# EAGLE library part PDI (library ds_ic_peripherals)
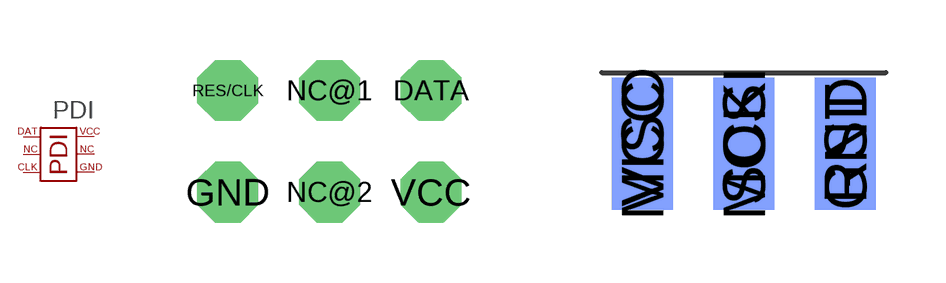
[diagram p75: symbol with the pads of PDI; footprints PDI, ISP(SMD]

Designator prefix PDI

## PDI  [PDI]
DATA  DAT
GND  GND
NC@1  NC
NC@2  NC
RES/CLK  RES/CLK
VCC  VCC

## PDIEDGE  [ISP(SMD]
GND  GND
MISO  DAT
MOSI  NC
RST  RES/CLK
SCK  NC
VCC  VCC

## Footprint PDI (pad centres in mm)
drill 1.016 octagon: DATA 2.54,-3.81; GND -2.54,-6.35; NC@1 0,-3.81; NC@2 0,-6.35; RES/CLK -2.54,-3.81; VCC 2.54,-6.35

## Footprint ISP(SMD (pad centres in mm)
smd 1.524 x 3.302 bottom: GND 2.54,-1.27; MOSI 0,-1.27; VCC -2.54,-1.27
smd 1.524 x 3.302: MISO -2.54,-1.27; RST 2.54,-1.27; SCK 0,-1.27